# Altium footprint library MH-G6.PcbLib: 1 footprints
Each footprint in its own frame and in the unit in brackets; x right, y up, seen from the top. Pads: shape width x height; smd on the part's side, far side on the other; paste and mask are expansions set on the pad; w line width, h text height; cw(c..) or ccw(c..) is an arc to the next point about the centre after c.
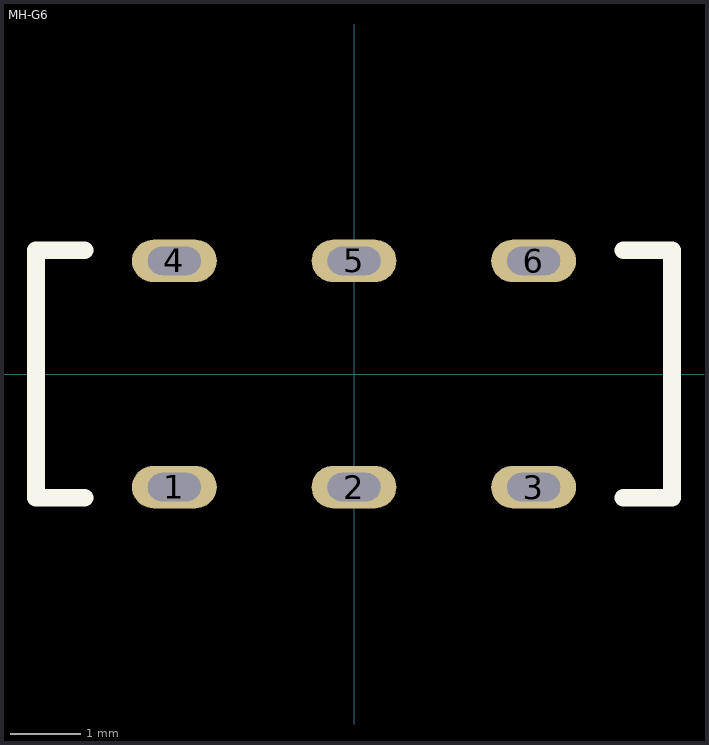
[diagram p0: the footprint, top view; thin cyan lines are the x and y axes]

## MH-G6 [mm]
pads (6):
  rrect100% 1.2x0.6 hole 0.4 slot 0.75 at 0 deg: 1(-2.54,-1.6) 2(0,-1.6) 3(2.54,-1.6) 4(-2.54,1.6) 5(0,1.6) 6(2.54,1.6)
Top Overlay:
  lines w0.254: -3.81,-1.75 -4.5,-1.75 -4.5,1.75 -3.81,1.75 ; 3.81,-1.75 4.5,-1.75 4.5,1.75 3.81,1.75